# Altium schematic symbol library SCH - CRYSTALS - DUAL PIN.Schlib: 1 symbol
Pins are listed as number, name and electrical type; pins without a type are passive.

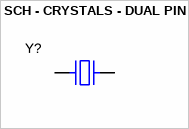
[diagram p0: symbol SCH - CRYSTALS - DUAL PIN]

## SCH - CRYSTALS - DUAL PIN
designator Y?
footprint CRYSTAL_5x3.2mm (SMD Crystal 5x3.2mm)
pins: 1, 2